# EAGLE library part CH340X (library angrypig7-IC)
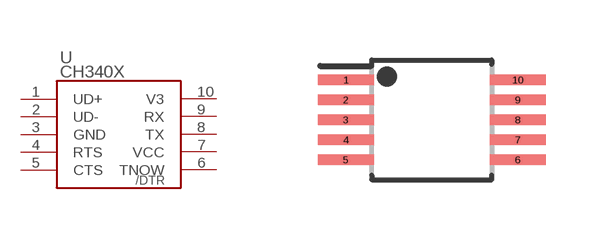
[diagram p18: symbol with the pads of MSOP-10; footprint MSOP-10]

Designator prefix U

## CH340X (LCSC: C3035748)  [MSOP-10]
1  UD+
2  UD-
3  GND  pwr
4  RTS  out
5  CTS  in
6  TNOW  out
7  VCC  pwr
8  TX  out
9  RX  in
10  V3  pwr

## Footprint MSOP-10 (pad centres in mm)
10-SOP, 0.50 mm pitch, 4.90 mm span, 3.00 X 3.00 X 1.10 mm body 10-pin SOP package with 0.50 mm pitch, 4.90 mm span with body size 3.00 X 3.00 X 1.10 mm
smd 1.412 x 0.272: 1 -2.15,1; 2 -2.15,0.5; 3 -2.15,0; 4 -2.15,-0.5; 5 -2.15,-1; 6 2.15,-1; 7 2.15,-0.5; 8 2.15,0; 9 2.15,0.5; 10 2.15,1